# EAGLE library part MPU6050 (library nrf24)
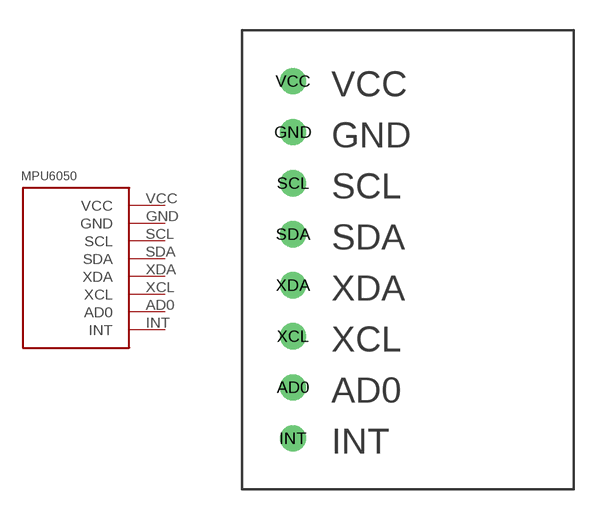
[diagram p1: symbol with the pads of MPU6050; footprint MPU6050]

Designator prefix -

## MPU6050  [MPU6050]
AD0  AD0
GND  GND
INT  INT
SCL  SCL
SDA  SDA
VCC  VCC
XCL  XCL
XDA  XDA

## Footprint MPU6050 (pad centres in mm)
drill 0.8 pad 1.27: AD0 0,-7.62; GND 0,5.08; INT 0,-10.16; SCL 0,2.54; SDA 0,0; VCC 0,7.62; XCL 0,-5.08; XDA 0,-2.54